# EAGLE library part LT8620 (library linear)
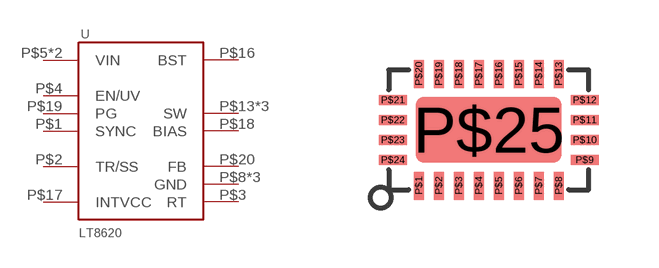
[diagram p283: symbol with the pads of QFN24; footprint QFN24]

Designator prefix -

## LT8620  [QFN24]
P$1  SYNC
P$2  TR/SS
P$3  RT
P$4  EN/UV
P$5  VIN
P$6  VIN
P$8  GND
P$9  GND
P$13  SW
P$14  SW
P$15  SW
P$16  BST
P$17  INTVCC
P$18  BIAS
P$19  PG
P$20  FB
P$25  GND

## Footprint QFN24 (pad centres in mm)
smd 0.25 x 0.7: P$1 -1.75,-1.4; P$2 -1.25,-1.4; P$3 -0.75,-1.4; P$4 -0.25,-1.4; P$5 0.25,-1.4; P$6 0.75,-1.4; P$7 1.25,-1.4; P$8 1.75,-1.4; P$13 1.75,1.4; P$14 1.25,1.4; P$15 0.75,1.4; P$16 0.25,1.4; P$17 -0.25,1.4; P$18 -0.75,1.4; P$19 -1.25,1.4; P$20 -1.75,1.4
smd 0.7 x 0.25: P$9 2.4,-0.75; P$10 2.4,-0.25; P$11 2.4,0.25; P$12 2.4,0.75; P$21 -2.4,0.75; P$22 -2.4,0.25; P$23 -2.4,-0.25; P$24 -2.4,-0.75
smd 3.65 x 1.65: P$25 0,0